# EAGLE library part LSM330 (library r_cubed)
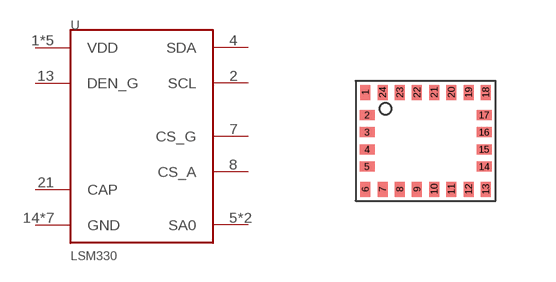
[diagram p8: symbol with the pads of LSM330; footprint LSM330]

Designator prefix -

## LSM330  [LSM330]
1  VDD
2  SCL
3  VDD
4  SDA
5  SA0
6  SA0
7  CS_G
8  CS_A
13  DEN_G
14  GND
15  GND
16  GND
17  GND
18  GND
19  GND
20  GND
21  CAP
22  VDD
23  VDD
24  VDD

## Footprint LSM330 (pad centres in mm)
smd 0.25 x 0.375: 1 -1.505,1.212; 6 -1.505,-1.212; 7 -1.075,-1.212; 8 -0.645,-1.212; 9 -0.215,-1.212; 10 0.215,-1.212; 11 0.645,-1.212; 12 1.075,-1.212; 13 1.505,-1.212; 18 1.505,1.212; 19 1.075,1.212; 20 0.645,1.212; 21 0.215,1.212; 22 -0.215,1.212; 23 -0.645,1.212; 24 -1.075,1.212
smd 0.375 x 0.25: 2 -1.462,0.645; 3 -1.462,0.215; 4 -1.462,-0.215; 5 -1.462,-0.645; 14 1.462,-0.645; 15 1.462,-0.215; 16 1.462,0.215; 17 1.462,0.645